# Altium schematic symbol library nRF8001-Reference Layout_rev1_0.SCHLIB: 8 symbols
Pins are listed as number, name and electrical type; pins without a type are passive.

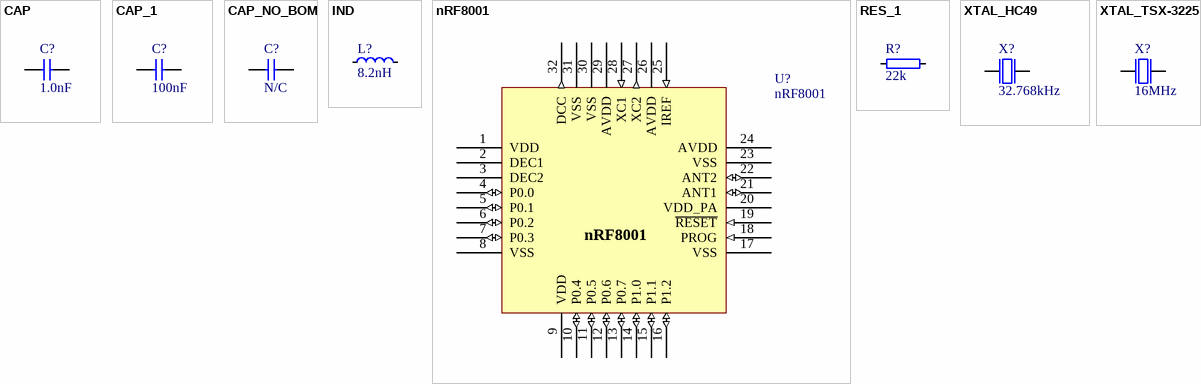
[diagram p0: symbols CAP to XTAL_TSX-3225]

## CAP
designator C?, comment 1.0nF
Chip Cap 0402 X7R 10%; Part Number: C0402-1n0; Note: Chip Cap X7R 10%; Artikkelnr Noca: 20039223; Published: 2009-05-08; LatestRevisionDate: 2009-11-23; Publisher: Nordic Semiconductor; Value: 1.0nF; Manufacturer: *; Manufacturer Part Number: *; Datasheet: *; Footprint: 0402s; Pin Count: 2; Supplier: *
footprint 0402s
pins: 1, 2

## CAP_1
designator C?, comment 100nF
Chip Cap 0402; Part Number: C0402-100n; Note: Chip Cap 10%; Artikkelnr Noca: 20039200; Published: 2009-05-08; LatestRevisionDate: 2009-11-23; Publisher: Nordic Semiconductor; Value: 100nF; Manufacturer: *; Manufacturer Part Number: *; Datasheet: *; Footprint: 0402s; Pin Count: 2; Supplier: *; Supplier part number: *; 2nd source Supplier: *; 2nd source part number: *
footprint 0402s
pins: 1, 2

## CAP_NO_BOM
designator C?, comment N/C
Chip Cap 0402; Part Number: C0402-N.C.; Artikkelnr Noca: N.A.; Manufacturer: *; Manufacturer Part Number: *; Datasheet: *; Footprint: 0402s; LatestRevisionDate: 2009-05-08; Pin Count: 2; Publisher: Nordic Semiconductor; Published: 2009-05-08; Value: N/C; Note: Chip Cap; Supplier: *; Supplier part number: *; 2nd source Supplier: *; 2nd source part number: *
footprint 0402s
pins: 1, 2

## IND
designator L?, comment 8.2nH
Chip Ind 0402; Part Number: L0402-8n2; Manufacturer: Murata; Manufacturer Part Number: LQP15MN8N2B02D; Note: LQP15MN8N2B02D 8.2nH 110mA 0402; Artikkelnr Noca: 33029139; Datasheet: http://search.murata.co.jp/Ceramy/image/img/PDF/ENG/L0075S0084LQP15M.pdf; Footprint: 0402; LatestRevisionDate: 2009-11-23; Pin Count: 2; Publisher: Nordic Semiconductor; Published: 2009-05-08; Value: 8.2nH; Supplier: Digi-Key; Supplier part number: 490-1135-1-ND; 2nd source Supplier: *; 2nd source part number: *
footprint 0402s
pins: 1, 2

## nRF8001
designator U?
nRF8001 Bluetooth LE chip; Manufacturer: Nordic Semiconductor; Note: nRF8001 - QFN32; Part Number: nRF8001; Manufacturer Part Number: *; Datasheet: *; Footprint: QFN-32; LatestRevisionDate: 2010-02-24; Pin Count: 32; Publisher: Nordic Semiconductor; Published: 2010-02-24; Value: nRF8001; Supplier: Nordic Semiconductor; Supplier part number: *; 2nd source Supplier: *; 2nd source part number: *; Artikkelnr Noca: *
footprint Nordic_QFN50P500X500X90-33N (QFN32 5x5x0.85mm, 0.5mm pitch - Medium Density)
pins: 1 VDD (power), 2 DEC1 (power), 3 DEC2 (power), 4 P0.0 (io), 5 P0.1 (io), 6 P0.2 (io), 7 P0.3 (io), 8 VSS (power), 9 VDD (power), 10 P0.4 (io), 11 P0.5 (io), 12 P0.6 (io), 13 P0.7 (io), 14 P1.0 (io), 15 P1.1 (io), 16 P1.2 (io), 17 VSS (power), 18 PROG (in), 19 ~{RESET} (in), 20 VDD_PA (power), 21 ANT1 (io), 22 ANT2 (io), 23 VSS (power), 24 AVDD (power), 25 IREF (in), 26 AVDD (power), 27 XC2 (out), 28 XC1 (in), 29 AVDD (power), 30 VSS (power), 31 VSS (power), 32 DCC (out), 33 GND hidden to GND

## RES_1
designator R?, comment 22k
Chip Res 0402 1%; Part Number: R0402-22k; Note: Chip Res 1%; Artikkelnr Noca: 27049105; Published: 2009-05-08; LatestRevisionDate: 2009-11-23; Publisher: Nordic Semiconductor; Value: 22k; Manufacturer: *; Manufacturer Part Number: *; Datasheet: *; Footprint: 0402; Pin Count: 2; Supplier: *
footprint 0402s
pins: 1, 2

## XTAL_HC49
designator X?, comment 32.768kHz
EPSON TOYOCOM - FC-135 32.768KHZ ±20PPM,9.0PF - CRYSTAL, SM, WATCH; Part Number: XTAL_FC-135 32.768k; Note: XTAL SMD 32.768kHz, 3215; Artikkelnr Noca: 2.20191e+007; Manufacturer: Epson Toyocom; Manufacturer Part Number: FC-135 32.768KHZ ±20PPM,9.0PF; Datasheet: http://www.farnell.com/datasheets/57480.pdf; Footprint: FC-135; LatestRevisionDate: 2010-10-18; Pin Count: 2; Publisher: Nordic Semiconductor; Published: 2010-10-18; Value: 32.768kHz; Supplier: Farnell; Supplier part number: 127-8037; 2nd source Supplier: *; 2nd source part number: *
footprint FC-135
pins: 1 inp, 2 out

## XTAL_TSX-3225
designator X?, comment 16MHz
XTAL SMD 16MHz, 9pF, Mercury; Part Number: XTAL SMD 16MHz (3225); Note: XTAL SMD 16MHz 3225; Artikkelnr Noca: 22019087; Value: 16MHz; Manufacturer: *; Manufacturer Part Number: *; Datasheet: http://ndap3-net.ebz.epson.co.jp/w/www/PDFS/epdoc_qd.nsf/85a4e2c523a1f89349257068002f9e30/31e98956c8f991cd4925707c003b38b1/$FILE/FA-238_238V_TSX-3225_E08X.pdf; Footprint: BT-XTAL_3225; LatestRevisionDate: 2010-02-24; Pin Count: 4; Publisher: Nordic Semiconductor; Published: 2009-05-30; Supplier: *; Supplier part number: *; 2nd source Supplier: *; 2nd source part number: *
footprint BT-XTAL_3225 (Mercury X32 series)
pins: 1 inp, 2 GND hidden to GND, 3 out, 4 GND hidden to GND